# Altium schematic symbol library CONN-STD-MODULAIRE-JACK-COUDE_CMS.SchLib: 1 symbol
Pins are listed as number, name and electrical type; pins without a type are passive.

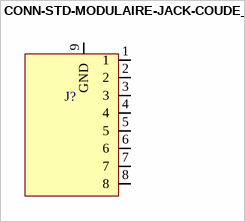
[diagram p0: symbol CONN-STD-MODULAIRE-JACK-COUDE_CMS]

## CONN-STD-MODULAIRE-JACK-COUDE_CMS
designator J?  (value not drawn)
pins: 1, 2, 3, 4, 5, 6, 7, 8, 9 GND